# Altium footprint library Tranformers.PcbLib: 15 footprints
Each footprint in its own frame and in the unit in brackets; x right, y up, seen from the top. Pads: shape width x height; smd on the part's side, far side on the other; paste and mask are expansions set on the pad; w line width, h text height; cw(c..) or ccw(c..) is an arc to the next point about the centre after c.
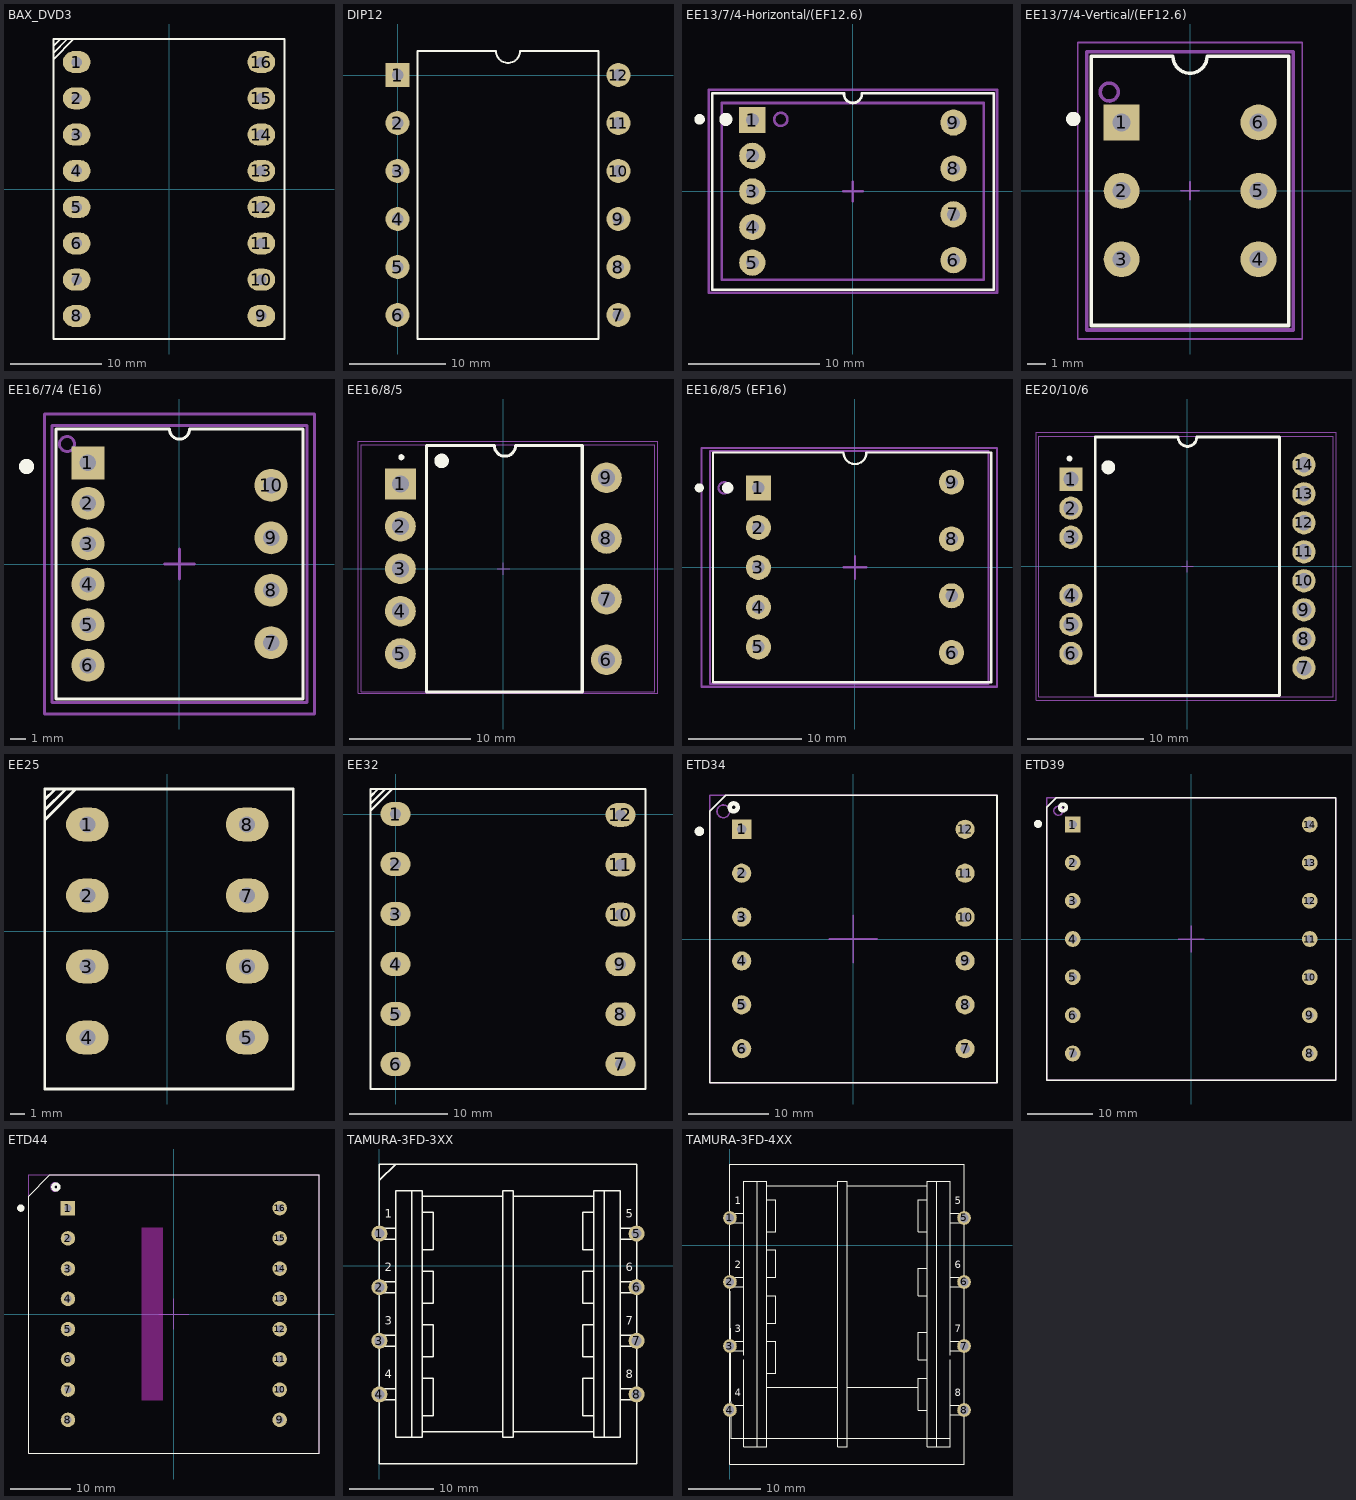
[diagram p0: the footprints below, top view; thin cyan lines are the x and y axes]

## BAX_DVD3 [mil] "Bien ap xung DVD3"
pads (16):
  oval 120x95 hole 45: 1(-400,550) 2(-400,392.86) 3(-400,235.71) 4(-400,78.57) 5(-400,-78.57) 6(-400,-235.71) 7(-400,-392.86) 8(-400,-550) 9(400,-550) 10(400,-392.86) 11(400,-235.71) 12(400,-78.57) 13(400,78.57) 14(400,235.71) 15(400,392.86) 16(400,550)
Top Overlay:
  lines w8: -500,563 -414,649 ; -500,589 -500,591 -442,649 ; -500,618 -500,620 -471,649 ; -500,-650 500,-650 500,650 490,650 -500,650 -500,-650

## DIP12 [mm]
pads (12):
  rect 2.5x2.5 hole 1.2: 1(0,0)
  round 2.5 hole 1.2: 2(0,-5) 3(0,-10) 4(0,-15) 5(0,-20) 6(0,-25) 7(23,-25) 8(23,-20) 9(23,-15) 10(23,-10) 11(23,-5) 12(23,0)
Top Overlay:
  lines w0.2: 2.085,-27.5 20.915,-27.5 20.915,2.5 12.75,2.5 cw(c11.5,2.5) 10.25,2.5 2.085,2.5 2.085,-27.5

## EE13/7/4-Horizontal/(EF12.6) [mm] "THT, 9-Leads, Body 21.5x15mm (max), Pitch 2.72mm"
height 12
pads (9):
  rect 2x2 hole 1: 1(-7.675,5.44)
  round 2 hole 1: 2(-7.675,2.72) 3(-7.675,0) 4(-7.675,-2.72) 5(-7.675,-5.44) 6(7.675,-5.25) 7(7.675,-1.75) 8(7.675,1.75) 9(7.675,5.25)
Top Overlay:
  circle w0.6: c-9.7,5.5 r0.2
  circle w0.4: c-11.7,5.5 r0.2
  lines w0.2: -10.75,-7.5 -10.75,7.5 -0.68,7.5 ccw(c0,7.433) 0.68,7.5 10.75,7.5 10.75,-7.5 -10.75,-7.5
Mechanical 13:
  circle w0.2: c-5.5,5.5 r0.5
  lines w0.2: -10,-6.75 -10,6.75 10,6.75 10,-6.75 -10,-6.75
Mechanical 15:
  lines w0.2: -0.75,0 0.75,0 ; 0,-0.75 0,0.75 ; -11,-7.75 -11,7.75 11,7.75 11,-7.75 -11,-7.75
3D body "WE-UNIT_E13_7_4_horizontal.stp": height 10.35, standoff -3.25, extent -9.75,-6.5 9.75,6.5

## EE13/7/4-Vertical/(EF12.6) [mm] "THT, 6-Leads, Body 15 x11mm (max), Pitch 3.81mm"
height 16.8
pads (6):
  rect 2x2 hole 1: 1(-3.81,3.81)
  round 2 hole 1: 2(-3.81,0) 3(-3.81,-3.81) 4(3.81,-3.81) 5(3.81,0) 6(3.81,3.81)
Top Overlay:
  circle w0.4: c-6.5,4 r0.2
  lines w0.2: -1,7.5 -5.5,7.5 -5.5,-7.5 5.5,-7.5 5.5,7.5 1,7.5 ; -0.953,7.5 ccw(c0,7.5) 0.953,7.5
Mechanical 13:
  circle w0.2: c-4.5,5.5 r0.5
  lines w0.2: -5.75,-7.75 5.75,-7.75 5.75,7.75 -5.75,7.75 -5.75,-7.75
Mechanical 15:
  lines w0.1: -0.5,0 0.5,0 ; 0,-0.5 0,0.5 ; -6.25,-8.25 6.25,-8.25 6.25,8.25 -6.25,8.25 -6.25,-8.25
3D body "WE-UNIT_E13_7_4_vertical.stp": height 16.8, standoff -3.5, extent -5.5,-7.5 5.5,7.5

## EE16/7/4 (E16) [mm] "THT, 10-Leads, Body 18x16.5mm (max), Pitch 2.7mm"
height 18
pads (10):
  rect 2.2x2.2 hole 1.1: 1(-6.1,6.75)
  round 2.2 hole 1.1: 2(-6.1,4.05) 3(-6.1,1.35) 4(-6.1,-1.35) 5(-6.1,-4.05) 6(-6.1,-6.75) 7(6.1,-5.25) 8(6.1,-1.75) 9(6.1,1.75) 10(6.1,5.25)
Top Overlay:
  circle w0.6: c-10.2,6.5 r0.2
  lines w0.2: -8.25,-9 8.25,-9 8.25,9 0.675,9 cw(c0,9) -0.675,9 -8.25,9 -8.25,-9
Mechanical 13:
  circle w0.2: c-7.5,8 r0.5
  lines w0.2: -8.5,-9.25 -8.5,9.25 8.5,9.25 8.5,-9.25 -8.5,-9.25
Mechanical 15:
  lines w0.2: -1,0 1,0 ; 0,-1 0,1 ; -9,-10 9,-10 9,10 -9,10 -9,-10
3D body "WE-UNIT_E16_7_4.stp": height 18.2, standoff -4.8, extent -8.25,-9 8.25,9

## EE16/8/5 [mm] "TH, 9-Leads, Body 24.38x20.32mm (max), Pitch 3.50mm"
height 15
pads (9):
  rect 2.54x2.54 hole 1.42: 1(-8.5,7)
  round 2.54 hole 1.42: 2(-8.5,3.5) 3(-8.5,0) 4(-8.5,-3.5) 5(-8.5,-7) 6(8.5,-7.5) 7(8.5,-2.5) 8(8.5,2.5) 9(8.5,7.5)
Top Overlay:
  circle w0.25: c-8.425,9.2 r0.125
  circle w0.6: c-5.1,8.9 r0.3
  lines w0.254: -0.8,10.16 -6.341,10.16 -6.341,-10.16 6.5,-10.16 6.5,10.16 1,10.16 cw(c0.125,10.16) -0.75,10.16
Mechanical 13:
  circle w0.1: c-5.1,8.9 r0.5
  lines w0.1: -11.75,-10.16 12.5,-10.16 12.5,10.25 -11.75,10.25 -11.75,-10.16
Mechanical 15:
  lines w0.1: -0.5,0 0.5,0 ; 0,-0.5 0,0.5 ; -12,-10.25 12.75,-10.25 12.75,10.5 -12,10.5 -12,-10.25
3D body "750811048.stp": height 15.15, standoff -3.25, extent -11.55,-9.8 12.25,10

## EE16/8/5 (EF16) [mm] "THT, 9-Leads, Body 24.5x20.2mm (max), Pitch 2.7mm"
height 16.5
pads (9):
  rect 2.2x2.2 hole 1.1: 1(-8.5,7)
  round 2.2 hole 1.1: 2(-8.5,3.5) 3(-8.5,0) 4(-8.5,-3.5) 5(-8.5,-7) 6(8.5,-7.5) 7(8.5,-2.5) 8(8.5,2.5) 9(8.5,7.5)
Top Overlay:
  circle w0.6: c-11.2,7 r0.2
  circle w0.4: c-13.7,7 r0.2
  lines w0.2: -12.5,-10.1 -12.5,10.1 -1,10.1 ccw(c0,10.095) 1,10.1 12,10.1 12,-10.1 -12.5,-10.1
Mechanical 13:
  circle w0.2: c-11.5,7 r0.5
  lines w0.2: -12.75,-10.25 11.75,-10.25 11.75,10.25 -12.75,10.25 -12.75,-10.25
Mechanical 15:
  lines w0.2: -1,0 1,0 ; 0,-1 0,1 ; -13.5,-10.5 -13.5,10.5 12,10.5 12.5,10.5 12.5,-10.5 -13.5,-10.5
3D body "WE-UNIT_E16_8_5.stp": height 14.55, standoff -3.85, extent -12.4,-9.9 11.4,9.9

## EE20/10/6 [mm] "TH, 14-Leads, Body 25.0x22.20mm (max), Pitch 2.49mm"
height 16
pads (14):
  rect 2x2 hole 1.32: 1(-10,7.48)
  round 2 hole 1.32: 2(-10,4.99) 3(-10,2.5) 4(-10,-2.5) 5(-10,-4.99) 6(-10,-7.48) 7(10,-8.715) 8(10,-6.225) 9(10,-3.735) 10(10,-1.245) 11(10,1.245) 12(10,3.735) 13(10,6.225) 14(10,8.715)
Top Overlay:
  circle w0.25: c-10.125,9.25 r0.125
  circle w0.6: c-6.8,8.5 r0.3
  lines w0.25: -7.915,-11.1 7.915,-11.1 7.915,11.1 0.8,11.1 cw(c0,11.1) -0.8,11.1 -7.915,11.1 -7.915,-11.1
Mechanical 13:
  circle w0.1: c-6.8,8.5 r0.5
  lines w0.1: -12.75,-11.176 -12.75,11.176 12.5,11.176 12.5,7.75 12.5,-11.176 -12.75,-11.176
Mechanical 15:
  lines w0.1: -0.5,0 0.5,0 ; 0,-0.5 0,0.5 ; -13,-11.5 -13,11.5 12.75,11.5 12.75,-11.5 -13,-11.5
3D body "750311911.stp": height 14.8, standoff -4.1, extent -12.463,-10.335 12.337,10.565

## EE25 [mil] "EE25"
pads (8):
  oval 120x95 hole 45: 1(-225,300) 2(-225,100) 3(-225,-100) 4(-225,-300) 5(225,-300) 6(225,-100) 7(225,100) 8(225,300)
Top Overlay:
  lines w8: -345,313 -259,399 ; -345,339 -345,341 -287,399 ; -345,368 -345,370 -316,399 ; -345,-445 -345,400 355,400 355,-445 -345,-445

## EE32 [mil] "EE32-ATX"
pads (12):
  oval 120x95 hole 45: 1(0,0) 2(0,-200) 3(0,-400) 4(0,-600) 5(0,-800) 6(0,-1000) 7(900,-1000) 8(900,-800.71) 9(900,-601.43) 10(900,-402.14) 11(900,-202.86) 12(900,-3.57)
Top Overlay:
  lines w8: -100,13 -14,99 ; -100,39 -100,41 -42,99 ; -100,68 -100,70 -71,99 ; -100,-1100 -100,100 1000,100 1000,-1100 -100,-1100

## ETD34 [mm] "THT Transformer, 12-Leads, Body 36 x36 mm"
height 26
pads (12):
  rect 2.4x2.4 hole 1.2: 1(-14,13.75)
  round 2.4 hole 1.2: 2(-14,8.25) 3(-14,2.75) 4(-14,-2.75) 5(-14,-8.25) 6(-14,-13.75) 7(14,-13.75) 8(14,-8.25) 9(14,-2.75) 10(14,2.75) 11(14,8.25) 12(14,13.75)
Top Overlay:
  circle w0.55: c-15,16.5 r0.5
  circle w0.6: c-19.3,13.5 r0.3
  lines w0.2: -18,-18 -18,16 -16,18 18,18 18,-18 -18,-18
Mechanical 13:
  circle w0.2: c-16.3,16 r0.8
  lines w0.2: -18,-18 -18,18 18,18 18,-18 -18,-18
Mechanical 15:
  lines w0.2: -3,0 3,0 ; 0,-3 0,3 ; -18,-18 18,-18 18,18 -18,18 -18,-18
3D body "WE-LLCR_ETD34_LLCR.stp": height 25.77, standoff -2.35, extent -17.5,-17.35 17.5,17.35

## ETD39 [mm] "THT Transformer, 14-Leads, Body 44 x43 mm"
height 30
pads (14):
  rect 2.4x2.4 hole 1.2: 1(-18,17.4)
  round 2.4 hole 1.2: 2(-18,11.6) 3(-18,5.8) 4(-18,0) 5(-18,-5.8) 6(-18,-11.6) 7(-18,-17.4) 8(18,-17.4) 9(18,-11.6) 10(18,-5.8) 11(18,0) 12(18,5.8) 13(18,11.6) 14(18,17.4)
Top Overlay:
  circle w0.6: c-23.3,17.5 r0.3
  circle w0.55: c-19.5,20 r0.5
  lines w0.2: -22,-21.5 22,-21.5 22,21.5 -20.5,21.5 -22,20 -22,-21.5
Mechanical 13:
  circle w0.2: c-20.2,19.5 r0.7
  lines w0.2: -22,-21.5 22,-21.5 22,21.5 -22,21.5 -22,-21.5
Mechanical 15:
  lines w0.2: -2,0 1.5,0 2,0 ; 0,-2 0,2 ; -22,-21.5 22,-21.5 22,21.5 -22,21.5 -22,-21.5
3D body "WE-LLCR_ETD39_LLCR.stp": height 30.25, standoff -2.4, extent -21.55,-20.9 21.55,20.9

## ETD44 [mm] "THT Transformer, 12-Leads, Body 48 x 46 mm"
height 27.5
pads (16):
  rect 2.4x2.4 hole 1.2: 1(-17.5,17.5)
  round 2.4 hole 1.2: 2(-17.5,12.5) 3(-17.5,7.5) 4(-17.5,2.5) 5(-17.5,-2.5) 6(-17.5,-7.5) 7(-17.5,-12.5) 8(-17.5,-17.5) 9(17.5,-17.5) 10(17.5,-12.5) 11(17.5,-7.5) 12(17.5,-2.5) 13(17.5,2.5) 14(17.5,7.5) 15(17.5,12.5) 16(17.5,17.5)
Top Overlay:
  circle w0.55: c-19.5,21 r0.5
  circle w0.6: c-25.3,17.5 r0.3
  lines w0.2: -24,-23 24,-23 24,23 -20.5,23 -24,19.5 -24,19 -24,18 -24,17.5 -24,17 -24,-23
Keep-Out Layer:
  board cut-out: -1.8,14.25 -5.3,14.25 -5.3,-14.25 -1.8,-14.25
Mechanical 13:
  circle w0.2: c-19.7,21 r0.7
  lines w0.2: -24,-23 24,-23 24,23 -24,23 -24,-23
Mechanical 15:
  lines w0.2: -2.5,0 2.5,0 ; 0,-2.5 0,2.5 ; -24,-23 -24,23 24,23 24,-23 -24,-23
3D body "WE-LLCR_ETD44_LLCR-32.stp": height 26.85, standoff -3.35, extent -23.3,-22 23.3,22

## TAMURA-3FD-3XX [mm]
pads (8):
  round 1.905 hole 1.2 unplated mask+0.051: 1(0,3.81) 2(0,-2.54) 3(0,-8.89) 4(0,-15.24) 5(30.48,3.81) 6(30.48,-2.54) 7(30.48,-8.89) 8(30.48,-15.24)
Top Overlay:
  lines w0.152: 0,-15.875 1.905,-15.875 ; 0,-14.605 1.905,-14.605 1.905,-15.875 ; 0,-9.525 1.905,-9.525 ; 0,-8.255 1.905,-8.255 ; 0,-3.175 1.905,-3.175 ; 0,-1.905 1.905,-1.905 ; 0,3.175 1.905,3.175 ; 0,4.445 1.905,4.445 ; 0,10.16 1.905,12.065 ; 5.08,-19.685 14.605,-19.685 ; 5.08,-17.78 6.35,-17.78 6.35,-13.335 5.08,-13.335 ; 5.08,-10.795 6.35,-10.795 6.35,-6.985 5.08,-6.985 ; 5.08,-4.445 6.35,-4.445 6.35,-0.635 5.08,-0.635 ; 5.08,1.905 6.35,1.905 6.35,6.35 5.08,6.35 ; 5.08,8.255 14.605,8.255 ; 15.875,-19.685 25.4,-19.685 ; 15.875,8.255 25.4,8.255 ; 25.4,-17.78 24.13,-17.78 24.13,-13.335 25.4,-13.335 ; 25.4,-10.795 24.13,-10.795 24.13,-6.985 25.4,-6.985 ; 25.4,-4.445 24.13,-4.445 24.13,-0.635 25.4,-0.635 ; 25.4,1.905 24.13,1.905 24.13,6.35 25.4,6.35 ; 28.575,-9.525 30.48,-9.525 ; 28.575,-8.255 30.48,-8.255 ; 28.575,-3.175 30.48,-3.175 ; 28.575,-1.905 30.48,-1.905 ; 30.48,-15.875 28.575,-15.875 ; 30.48,-14.605 28.575,-14.605 28.575,-15.875 ; 30.48,3.175 28.575,3.175 ; 30.48,4.445 28.575,4.445 ; 0,-6.35 0,-23.495 30.48,-23.495 30.48,-6.35 ; 0,-6.35 0,-5.08 ; 0,-6.35 0,-5.08 ; 0,-5.08 0,12.065 30.48,12.065 30.48,-5.08 ; 1.905,-15.875 1.905,-15.24 1.905,3.175 ; 1.905,-15.875 1.905,-20.32 3.81,-20.32 ; 1.905,3.175 1.905,4.445 ; 1.905,4.445 1.905,8.89 3.81,8.89 ; 3.81,-20.32 4.445,-20.32 5.08,-20.32 5.08,-12.7 5.08,1.27 5.08,8.89 4.445,8.89 3.81,8.89 ; 3.81,-20.32 3.81,-12.7 3.81,1.27 3.81,8.89 ; 26.67,-20.32 28.575,-20.32 28.575,-15.875 ; 26.67,-20.32 26.67,-12.7 26.67,1.27 26.67,8.89 ; 26.67,-20.32 26.035,-20.32 25.4,-20.32 25.4,-12.7 25.4,1.27 25.4,8.89 26.035,8.89 26.67,8.89 ; 26.67,8.89 28.575,8.89 28.575,4.445 ; 28.575,-15.875 28.575,-15.24 28.575,3.175 ; 28.575,3.175 28.575,4.445 ; 30.48,-6.35 30.48,-5.08 ; 30.48,-6.35 30.48,-5.08 ; 14.605,-20.32 14.605,8.89 15.875,8.89 15.875,-20.32 14.605,-20.32
  text "1" at 0.635,5.715 h1.02
  text "2" at 0.635,-0.635 h1.02
  text "3" at 0.635,-6.985 h1.02
  text "4" at 0.635,-13.335 h1.02
  text "5" at 29.21,5.715 h1.02
  text "6" at 29.21,-0.635 h1.02
  text "7" at 29.21,-6.985 h1.02
  text "8" at 29.21,-13.335 h1.02
3D body: height 4.34, standoff -0.56, extent 30.226,-15.748 30.734,-14.732
3D body: height 5.08, standoff 4.34, extent 28.321,-15.748 30.734,-14.732
3D body: height 4.34, standoff -0.56, extent 30.226,-9.398 30.734,-8.382
3D body: height 5.08, standoff 4.34, extent 28.321,-9.398 30.734,-8.382
3D body: height 4.34, standoff -0.56, extent 30.226,-3.048 30.734,-2.032
3D body: height 5.08, standoff 4.34, extent 28.321,-3.048 30.734,-2.032
3D body: height 4.34, standoff -0.56, extent 30.226,3.302 30.734,4.318
3D body: height 5.08, standoff 4.34, extent 28.321,3.302 30.734,4.318
3D body: height 4.34, standoff -0.56, extent -0.254,3.302 0.254,4.318
3D body: height 5.08, standoff 4.34, extent -0.254,3.302 2.159,4.318
3D body: height 4.34, standoff -0.56, extent -0.254,-3.048 0.254,-2.032
3D body: height 5.08, standoff 4.34, extent -0.254,-3.048 2.159,-2.032
3D body: height 4.34, standoff -0.56, extent -0.254,-15.748 0.254,-14.732
3D body: height 5.08, standoff 4.34, extent -0.254,-15.748 2.159,-14.732
3D body: height 5.08, standoff 4.34, extent -0.254,-9.398 2.159,-8.382
3D body: height 4.34, standoff -0.56, extent -0.254,-9.398 0.254,-8.382
3D body: height 32.1, standoff 0, extent 14.605,-20.32 15.875,8.89
3D body: height 32.1, standoff 0, extent 25.4,-20.32 28.575,8.89
3D body: height 22.86, standoff 8.38, extent 0,-23.495 30.48,12.065
3D body: height 32.1, standoff 0, extent 1.905,-20.32 5.08,8.89
3D body: height 29.21, standoff 1.91, extent 5.143,-19.685 14.605,8.255
3D body: height 29.21, standoff 1.91, extent 15.875,-19.685 25.4,8.255

## TAMURA-3FD-4XX [mm]
pads (8):
  round 1.905 hole 1.2 unplated mask+0.051: 1(0,3.81) 2(0,-5.08) 3(0,-13.97) 4(0,-22.86) 5(32.512,3.81) 6(32.512,-5.08) 7(32.512,-13.97) 8(32.512,-22.86)
Top Overlay:
  lines w0.152: 0,-22.225 1.905,-22.225 1.905,-23.495 1.905,-22.86 ; 0,-14.605 1.905,-14.605 ; 0,-13.335 1.905,-13.335 ; 0,-5.715 1.905,-5.715 ; 0,-4.445 1.905,-4.445 ; 0,3.175 1.905,3.175 ; 0,4.445 1.905,4.445 ; 1.905,-15.875 1.905,-27.94 3.81,-27.94 ; 1.905,-15.24 1.905,3.175 ; 5.08,-19.685 14.986,-19.685 ; 5.08,-17.78 6.35,-17.78 6.35,-13.335 5.08,-13.335 ; 5.08,-10.795 6.35,-10.795 6.35,-6.985 5.08,-6.985 ; 5.08,-4.445 6.35,-4.445 6.35,-0.635 5.08,-0.635 ; 5.08,1.905 6.35,1.905 6.35,6.35 5.08,6.35 ; 5.08,8.255 14.859,8.255 ; 16.256,-19.685 26.162,-19.685 ; 16.256,8.255 27.432,8.255 ; 27.432,-22.86 26.162,-22.86 26.162,-18.415 27.432,-18.415 ; 27.432,-15.875 26.162,-15.875 26.162,-12.065 27.432,-12.065 ; 27.432,-6.985 26.162,-6.985 26.162,-3.175 27.432,-3.175 ; 27.432,1.905 26.162,1.905 26.162,6.35 27.432,6.35 ; 28.067,-27.94 28.702,-27.94 ; 29.654,-27.94 27.432,-27.94 27.432,-20.32 27.432,-12.7 27.432,1.27 27.432,8.89 28.067,8.89 28.702,8.89 ; 30.607,-26.797 0.127,-26.797 0,-6.35 ; 30.607,-22.86 30.607,-23.495 ; 30.607,-15.875 30.607,-27.94 28.702,-27.94 ; 30.607,-15.24 30.607,3.175 ; 30.607,-14.605 32.512,-14.605 ; 30.607,-13.335 32.512,-13.335 ; 30.607,-5.715 32.512,-5.715 ; 30.607,-4.445 32.512,-4.445 ; 32.512,-22.225 30.607,-22.225 30.607,-23.495 ; 32.512,-6.35 32.512,-23.495 30.607,-23.495 ; 32.512,3.175 30.607,3.175 ; 32.512,4.445 30.607,4.445 ; 0,-6.35 0,-5.08 0,-6.35 ; 1.905,3.175 1.905,4.445 ; 1.905,4.445 1.905,8.89 3.81,8.89 ; 3.81,-27.94 3.81,-12.7 3.81,1.27 3.81,8.89 ; 3.81,-27.94 5.08,-27.94 5.08,-12.7 5.08,1.27 5.08,8.89 4.445,8.89 3.81,8.89 ; 28.702,-27.94 28.702,-12.7 28.702,1.27 28.702,8.89 ; 28.702,8.89 30.607,8.89 30.607,4.445 ; 30.607,3.175 30.607,4.445 ; 0,-30.353 32.512,-30.353 32.512,3.81 32.512,11.303 2.54,11.303 0,11.303 0,-9.525 0,-30.353 ; 14.986,-27.94 16.256,-27.94 16.256,8.89 14.986,8.89 14.986,-27.94 ; 32.512,-11.43 32.512,-10.16 32.512,-11.43
  text "8" at 31.242,-20.955 h1.02
  text "7" at 31.242,-12.065 h1.02
  text "6" at 31.242,-3.175 h1.02
  text "5" at 31.242,5.715 h1.02
  text "4" at 0.635,-20.955 h1.02
  text "3" at 0.635,-12.065 h1.02
  text "2" at 0.635,-3.175 h1.02
  text "1" at 0.635,5.715 h1.02
3D body: height 29.21, standoff 1.91, extent 5.048,-26.797 27.432,8.255
3D body: height 32.1, standoff 0, extent 1.905,-27.94 5.08,8.89
3D body: height 22.86, standoff 8.38, extent 0,-30.353 32.512,11.303
3D body: height 32.1, standoff 0, extent 28.702,-27.94 30.607,8.89
3D body: height 4.34, standoff -0.56, extent -0.254,-14.478 0.254,-13.462
3D body: height 5.08, standoff 4.34, extent -0.254,-14.478 2.159,-13.462
3D body: height 5.08, standoff 4.34, extent -0.254,-23.368 2.159,-22.352
3D body: height 4.34, standoff -0.56, extent -0.254,-23.368 0.254,-22.352
3D body: height 5.08, standoff 4.34, extent -0.317,-5.588 2.096,-4.572
3D body: height 4.34, standoff -0.56, extent -0.317,-5.588 0.191,-4.572
3D body: height 5.08, standoff 4.34, extent -0.254,3.302 2.159,4.318
3D body: height 4.34, standoff -0.56, extent -0.254,3.302 0.254,4.318
3D body: height 5.08, standoff 4.34, extent 30.353,3.302 32.766,4.318
3D body: height 4.34, standoff -0.56, extent 32.258,3.302 32.766,4.318
3D body: height 5.08, standoff 4.34, extent 30.353,-5.588 32.766,-4.572
3D body: height 4.34, standoff -0.56, extent 32.258,-5.588 32.766,-4.572
3D body: height 5.08, standoff 4.34, extent 30.353,-14.478 32.766,-13.462
3D body: height 4.34, standoff -0.56, extent 32.258,-14.478 32.766,-13.462
3D body: height 5.08, standoff 4.34, extent 30.353,-23.368 32.766,-22.352
3D body: height 4.34, standoff -0.56, extent 32.258,-23.368 32.766,-22.352